# Altium footprint library SMAF_S1.PcbLib: 1 footprints
Each footprint in its own frame and in the unit in brackets; x right, y up, seen from the top. Pads: shape width x height; smd on the part's side, far side on the other; paste and mask are expansions set on the pad; w line width, h text height; cw(c..) or ccw(c..) is an arc to the next point about the centre after c.
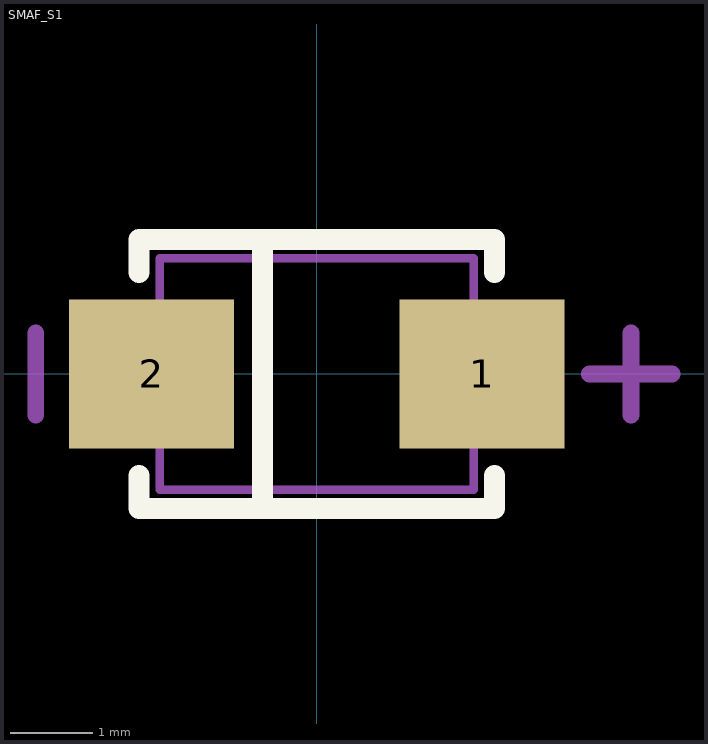
[diagram p0: the footprint, top view; thin cyan lines are the x and y axes]

## SMAF_S1 [mm]
pads (2):
  rect 2x1.8 smd: 1(2,0) 2(-2,0)
Top Overlay:
  lines w0.254: -2.15,-1.23 -2.15,-1.625 2.15,-1.625 2.15,-1.23 ; -2.15,1.23 -2.15,1.625 2.15,1.625 2.15,1.23 ; -0.66,-1.625 -0.66,1.625
Mechanical 13:
  lines w0.1: -1.9,-1.4 -1.9,1.4 1.9,1.4 1.9,-1.4 -1.9,-1.4
Mechanical 15:
  lines w0.203: -3.4,-0.5 -3.4,0.5 ; 3.3,0 4.3,0 ; 3.8,-0.5 3.8,0.5